# Altium schematic symbol library motor.SchLib: 11 symbols
Pins are listed as number, name and electrical type; pins without a type are passive.

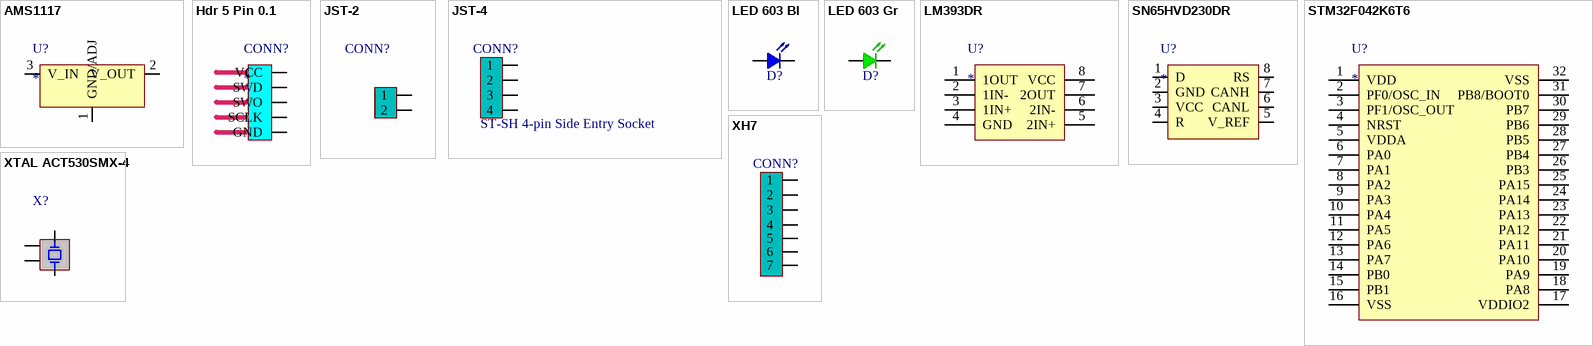
[diagram p0: symbols AMS1117 to XTAL ACT530SMX-4]

## AMS1117
designator U?
pins: 1 GND/ADJ, 2 V_OUT, 3 V_IN

## Hdr 5 Pin 0.1
designator CONN?
pins: 1 VCC, 2 SWD, 3 SWO, 4 SCLK, 5 GND

## JST-2
designator CONN?
JST-SH 4-pin Side Entry Socket; Manufacturer: Generic Components; Class: Connector; Supplier 1: Digi-Key; Supplier Part Number 1: 455-1804-1-ND
footprint JST SH 4 Pin Side Entry (SM04B-SRSS-TB)
pins: 1, 2

## JST-4
designator CONN?, comment ST-SH 4-pin Side Entry Socket
JST-SH 4-pin Side Entry Socket; Manufacturer: Generic Components; Class: Connector; Supplier 1: Digi-Key; Supplier Part Number 1: 455-1804-1-ND
footprint JST SH 4 Pin Side Entry (SM04B-SRSS-TB)
pins: 1, 2, 3, 4

## LED 603 Bl
designator D?, comment Blue  (value not drawn)
Blue 603 LED; Supplier 1: Digi-Key; Supplier Part Number 1: 350-2037-1-ND
footprint LED603N (Chip LED, Body 1.6x0.8mm, IPC Medium Density)
footprint LED603L (Chip LED, Body 1.6x0.8mm, IPC High Density)
pins: 1 K, 2 A

## LED 603 Gr
designator D?, comment Green  (value not drawn)
Green 603 LED; Value: 2.1v 20mA; Supplier 1: Digi-Key; Supplier Part Number 1: 754-1116-1-ND
footprint LED603N (Chip LED, Body 1.6x0.8mm, IPC Medium Density)
footprint LED603L (Chip LED, Body 1.6x0.8mm, IPC High Density)
pins: 1 K, 2 A

## LM393DR
designator U?
pins: 1 1OUT, 2 1IN-, 3 1IN+, 4 GND, 5 2IN+, 6 2IN-, 7 2OUT, 8 VCC

## SN65HVD230DR
designator U?
pins: 1 D, 2 GND, 3 VCC, 4 R, 5 V_REF, 6 CANL, 7 CANH, 8 RS

## STM32F042K6T6
designator U?
pins: 1 VDD, 2 PF0/OSC_IN, 3 PF1/OSC_OUT, 4 NRST, 5 VDDA, 6 PA0, 7 PA1, 8 PA2, 9 PA3, 10 PA4, 11 PA5, 12 PA6, 13 PA7, 14 PB0, 15 PB1, 16 VSS, 17 VDDIO2, 18 PA8, 19 PA9, 20 PA10, 21 PA11, 22 PA12, 23 PA13, 24 PA14, 25 PA15, 26 PB3, 27 PB4, 28 PB5, 29 PB6, 30 PB7, 31 PB8/BOOT0, 32 VSS

## XH7
designator CONN?
JST-SH 5-pin Side Entry Socket; Manufacturer: Generic Components; Class: Connector; Supplier 1: Digi-Key; Supplier Part Number 1: 455-1804-1-ND
footprint JST SH 4 Pin Side Entry (SM04B-SRSS-TB)
pins: 1, 2, 3, 4, 5, 6, 7

## XTAL ACT530SMX-4
designator X?, comment 8MHz  (value not drawn)
Surface Mount Quartz Crystal, Digikey 535-9720-1-ND; Class: Oscillator; SubClass: Crystal Oscillator; Supplier 1: Digi-Key; Supplier Part Number 1: 535-9720-1-ND
footprint XTAL ACT530SMX-4 Series (ACT530SMX-4Series from ACT)
pins: 1, 2, 3, 4